# EAGLE library part TLC5947 (library my_lib)
TLC5947 <http://focus.ti.com/docs/prod/folders/print/tlc5947.html> led driver with 24 output channel and 32 pins. SMD Package. Designed by: Patricio Lima.
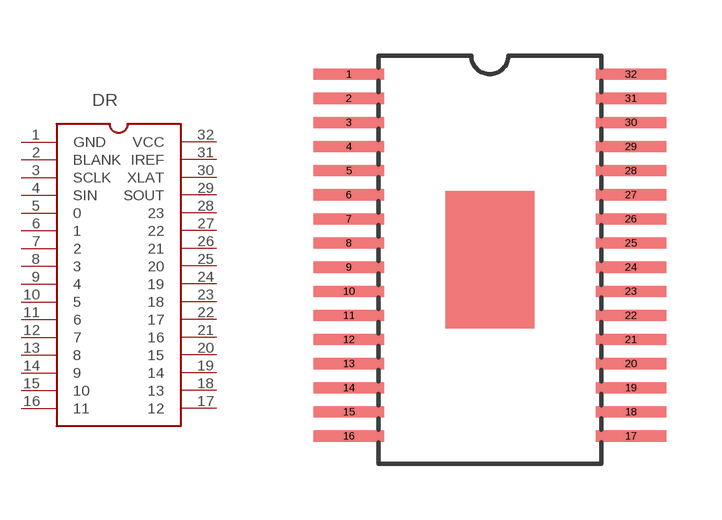
[diagram p1: symbol with the pads of TLC5947; footprint TLC5947]

Designator prefix DR

## TLC5947  [TLC5947]
1  GND
2  BLANK
3  SCLK
4  SIN
5  0
6  1
7  2
8  3
9  4
10  5
11  6
12  7
13  8
14  9
15  10
16  11
17  12
18  13
19  14
20  15
21  16
22  17
23  18
24  19
25  20
26  21
27  22
28  23
29  SOUT
30  XLAT
31  IREF
32  VCC

## Footprint TLC5947 (pad centres in mm)
smd 1.9 x 0.3: 1 -0.8,10.5; 2 -0.8,9.85; 3 -0.8,9.2; 4 -0.8,8.55; 5 -0.8,7.9; 6 -0.8,7.25; 7 -0.8,6.6; 8 -0.8,5.95; 9 -0.8,5.3; 10 -0.8,4.65; 11 -0.8,4; 12 -0.8,3.35; 13 -0.8,2.7; 14 -0.8,2.05; 15 -0.8,1.4; 16 -0.8,0.75; 17 6.8,0.75; 18 6.8,1.4; 19 6.8,2.05; 20 6.8,2.7; 21 6.8,3.35; 22 6.8,4; 23 6.8,4.65; 24 6.8,5.3; 25 6.8,5.95; 26 6.8,6.6; 27 6.8,7.25; 28 6.8,7.9; 29 6.8,8.55; 30 6.8,9.2; 31 6.8,9.85; 32 6.8,10.5